# Altium schematic symbol library AVR128DB48IPTv2.SchLib: 2 symbols
Pins are listed as number, name and electrical type; pins without a type are passive.

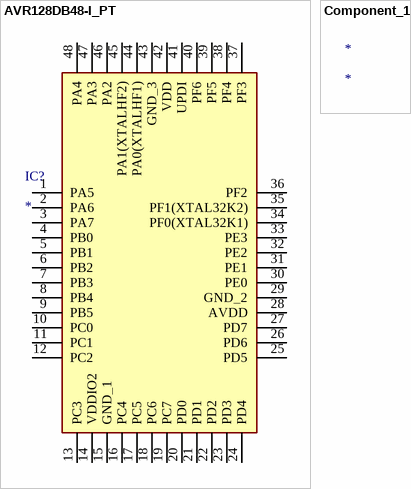
[diagram p0: symbols AVR128DB48-I_PT to Component_1]

## AVR128DB48-I_PT
designator IC?
Integrated Circuit; Manufacturer_Name: Microchip; Manufacturer_Part_Number: AVR128DB48-I/PT; Description: 8-bit Microcontrollers - MCU 128KB; Datasheet Link: https://ww1.microchip.com/downloads/en/DeviceDoc/AVR128DB28-32-48-64-DataSheet-DS40002247A.pdf; Height: 1.2mm; Mouser Part Number: 579-AVR128DB48-I/PT; Mouser Price/Stock: https://www.mouser.co.uk/ProductDetail/Microchip-Technology/AVR128DB48-I-PT?qs=vmHwEFxEFR8J6TEwJS0Zlw%3D%3D; Arrow Part Number: AVR128DB48-I/PT; Arrow Price/Stock: https://www.arrow.com/en/products/avr128db48-ipt/microchip-technology?region=nac
footprint QFP50P900X900X120-48N
pins: 1 PA5, 2 PA6, 3 PA7, 4 PB0, 5 PB1, 6 PB2, 7 PB3, 8 PB4, 9 PB5, 10 PC0, 11 PC1, 12 PC2, 13 PC3, 14 VDDIO2, 15 GND_1, 16 PC4, 17 PC5, 18 PC6, 19 PC7, 20 PD0, 21 PD1, 22 PD2, 23 PD3, 24 PD4, 25 PD5, 26 PD6, 27 PD7, 28 AVDD, 29 GND_2, 30 PE0, 31 PE1, 32 PE2, 33 PE3, 34 PF0(XTAL32K1), 35 PF1(XTAL32K2), 36 PF2, 37 PF3, 38 PF4, 39 PF5, 40 PF6, 41 UPDI, 42 VDD, 43 GND_3, 44 PA0(XTALHF1), 45 PA1(XTALHF2), 46 PA2, 47 PA3, 48 PA4

## Component_1
designator *